# EAGLE library part MED_MOSFET (library pololu)
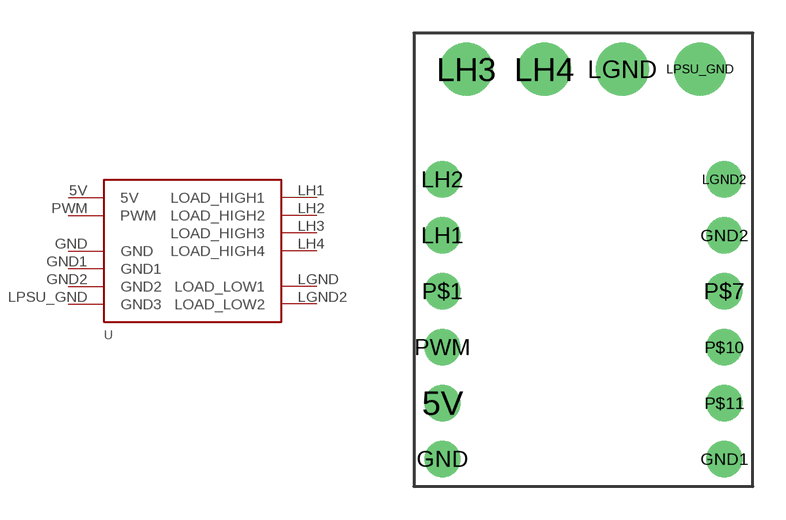
[diagram p0: symbol with the pads of MED_MOSFET; footprint MED_MOSFET]

Designator prefix -

## MED_MOSFET  [MED_MOSFET]
5V  5V
GND  GND
GND1  GND1
GND2  GND2
LGND  LOAD_LOW1
LGND2  LOAD_LOW2
LH1  LOAD_HIGH1
LH2  LOAD_HIGH2
LH3  LOAD_HIGH3
LH4  LOAD_HIGH4
LPSU_GND  GND3
PWM  PWM

## Footprint MED_MOSFET (pad centres in mm)
drill 1.1: 5V -6.4,-3.81; GND -6.4,-6.35; GND1 6.4,-6.35; GND2 6.4,3.81; LGND2 6.4,6.35; LH1 -6.4,3.81; LH2 -6.4,6.35; P$1 -6.4,1.27; P$7 6.4,1.27; P$10 6.4,-1.27; P$11 6.4,-3.81; PWM -6.4,-1.27
drill 1.6: LGND 1.77,11.35; LH3 -5.3,11.35; LH4 -1.77,11.35; LPSU_GND 5.3,11.35